# Altium schematic symbol library ROTARY_ENCODER_SWITCH.SchLib: 1 symbol
Pins are listed as number, name and electrical type; pins without a type are passive.

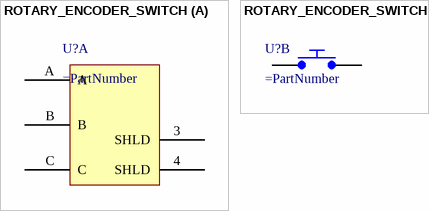
[diagram p0: symbol ROTARY_ENCODER_SWITCH]

## ROTARY_ENCODER_SWITCH
designator U?
part A pins: 3 SHLD, 4 SHLD, A, B, C
part B pins: 1, 2